# EAGLE library part 16MBITFLASH (library pixel)
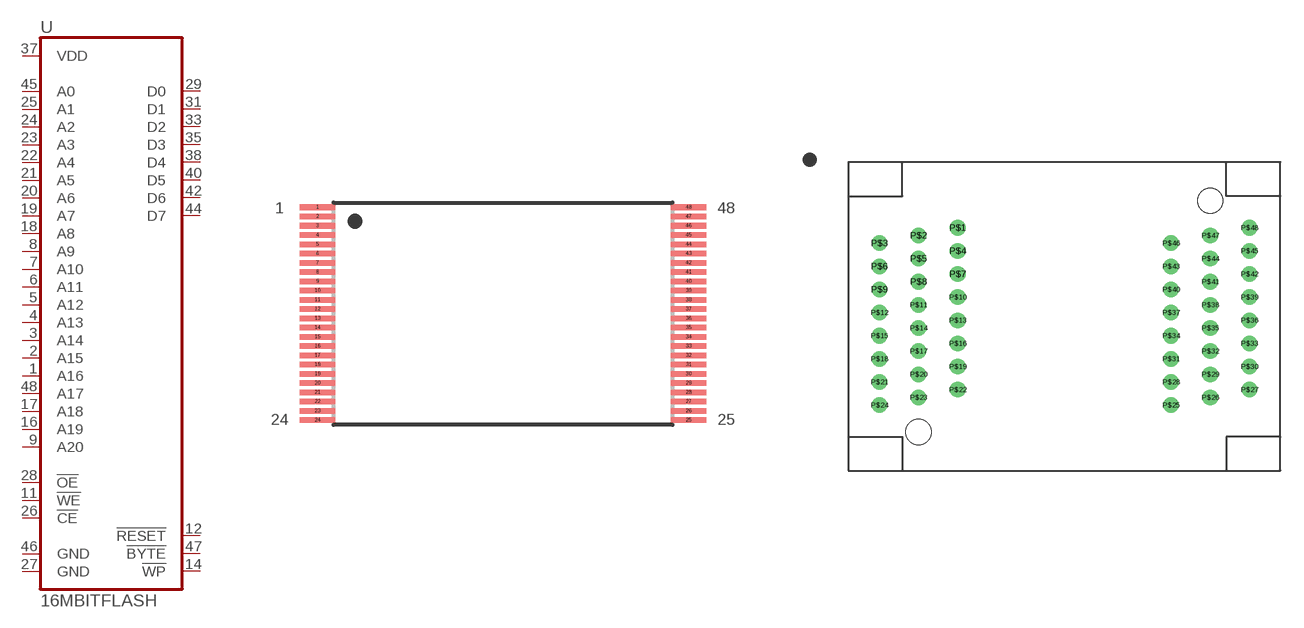
[diagram p2: symbol with the pads of TSOP48-LL; footprints TSOP48-LL, TSOP48-ADAPTER]

Designator prefix -

## 16MBITFLASHLONGLEAD  [TSOP48-LL]
1  A16  in
2  A15  in
3  A14  in
4  A13  in
5  A12  in
6  A11  in
7  A10  in
8  A9  in
9  A20
11  !WE  in
12  !RESET
14  !WP
16  A19
17  A18  in
18  A8  in
19  A7  in
20  A6  in
21  A5  in
22  A4  in
23  A3  in
24  A2  in
25  A1  in
26  !CE  in
27  GND  pwr
28  !OE  in
29  D0
31  D1
33  D2
35  D3
37  VDD  pwr
38  D4
40  D5
42  D6
44  D7
45  A0  in
46  GND  pwr
47  !BYTE
48  A17  in

## 16MBITFLASHSOCKET  [TSOP48-ADAPTER]
P$1  A16  in
P$2  A15  in
P$3  A14  in
P$4  A13  in
P$5  A12  in
P$6  A11  in
P$7  A10  in
P$8  A9  in
P$9  A20
P$11  !WE  in
P$12  !RESET
P$14  !WP
P$16  A19
P$17  A18  in
P$18  A8  in
P$19  A7  in
P$20  A6  in
P$21  A5  in
P$22  A4  in
P$23  A3  in
P$24  A2  in
P$25  A1  in
P$26  !CE  in
P$27  GND  pwr
P$28  !OE  in
P$29  D0
P$31  D1
P$33  D2
P$35  D3
P$37  VDD  pwr
P$38  D4
P$40  D5
P$42  D6
P$44  D7
P$45  A0  in
P$46  GND  pwr
P$47  !BYTE
P$48  A17  in

## 16MBITFLASH  [TSOP48]
1  A16  in
2  A15  in
3  A14  in
4  A13  in
5  A12  in
6  A11  in
7  A10  in
8  A9  in
9  A20
11  !WE  in
12  !RESET
14  !WP
16  A19
17  A18  in
18  A8  in
19  A7  in
20  A6  in
21  A5  in
22  A4  in
23  A3  in
24  A2  in
25  A1  in
26  !CE  in
27  GND  pwr
28  !OE  in
29  D0
31  D1
33  D2
35  D3
37  VDD  pwr
38  D4
40  D5
42  D6
44  D7
45  A0  in
46  GND  pwr
47  !BYTE
48  A17  in

## Footprint TSOP48-LL (pad centres in mm)
48-Lead Thin Small Outline Package (TSOP) 12mm x 20mm SST Package Code: EK Source: http://www.sst.com/dotAsset/40687.pdf
smd 1.9 x 0.3: 1 -10.025,5.75; 2 -10.025,5.25; 3 -10.025,4.75; 4 -10.025,4.25; 5 -10.025,3.75; 6 -10.025,3.25; 7 -10.025,2.75; 8 -10.025,2.25; 9 -10.025,1.75; 10 -10.025,1.25; 11 -10.025,0.75; 12 -10.025,0.25; 13 -10.025,-0.25; 14 -10.025,-0.75; 15 -10.025,-1.25; 16 -10.025,-1.75; 17 -10.025,-2.25; 18 -10.025,-2.75; 19 -10.025,-3.25; 20 -10.025,-3.75; 21 -10.025,-4.25; 22 -10.025,-4.75; 23 -10.025,-5.25; 24 -10.025,-5.75; 25 10.025,-5.75; 26 10.025,-5.25; 27 10.025,-4.75; 28 10.025,-4.25; 29 10.025,-3.75; 30 10.025,-3.25; 31 10.025,-2.75; 32 10.025,-2.25; 33 10.025,-1.75; 34 10.025,-1.25; 35 10.025,-0.75; 36 10.025,-0.25; 37 10.025,0.25; 38 10.025,0.75; 39 10.025,1.25; 40 10.025,1.75; 41 10.025,2.25; 42 10.025,2.75; 43 10.025,3.25; 44 10.025,3.75; 45 10.025,4.25; 46 10.025,4.75; 47 10.025,5.25; 48 10.025,5.75

## Footprint TSOP48-ADAPTER (pad centres in mm)
drill 0.5 pad 0.754: P$1 -6.915,5.75; P$2 -9.455,5.25; P$3 -11.995,4.75; P$4 -6.915,4.25; P$5 -9.455,3.75; P$6 -11.995,3.25; P$7 -6.915,2.75; P$8 -9.455,2.25; P$9 -11.995,1.75; P$10 -6.915,1.25; P$11 -9.455,0.75; P$12 -11.995,0.25; P$13 -6.915,-0.25; P$14 -9.455,-0.75; P$15 -11.995,-1.25; P$16 -6.915,-1.75; P$17 -9.455,-2.25; P$18 -11.995,-2.75; P$19 -6.915,-3.25; P$20 -9.455,-3.75; P$21 -11.995,-4.25; P$22 -6.915,-4.75; P$23 -9.455,-5.25; P$24 -11.995,-5.75; P$25 6.915,-5.75; P$26 9.455,-5.25; P$27 11.995,-4.75; P$28 6.915,-4.25; P$29 9.455,-3.75; P$30 11.995,-3.25; P$31 6.915,-2.75; P$32 9.455,-2.25; P$33 11.995,-1.75; P$34 6.915,-1.25; P$35 9.455,-0.75; P$36 11.995,-0.25; P$37 6.915,0.25; P$38 9.455,0.75; P$39 11.995,1.25; P$40 6.915,1.75; P$41 9.455,2.25; P$42 11.995,2.75; P$43 6.915,3.25; P$44 9.455,3.75; P$45 11.995,4.25; P$46 6.915,4.75; P$47 9.455,5.25; P$48 11.995,5.75
hole 1.65 at 9.455,7.5
hole 1.65 at -9.455,-7.5

## Footprint TSOP48 (pad centres in mm)
48-Pin TSOP OCPL Type 1 (WC Package Code) Source: http://download.micron.com/pdf/datasheets/flash/nand/4gb_nand_m40a.pdf
smd 0.9 x 0.3: 1 -9.75,5.75; 2 -9.75,5.25; 3 -9.75,4.75; 4 -9.75,4.25; 5 -9.75,3.75; 6 -9.75,3.25; 7 -9.75,2.75; 8 -9.75,2.25; 9 -9.75,1.75; 10 -9.75,1.25; 11 -9.75,0.75; 12 -9.75,0.25; 13 -9.75,-0.25; 14 -9.75,-0.75; 15 -9.75,-1.25; 16 -9.75,-1.75; 17 -9.75,-2.25; 18 -9.75,-2.75; 19 -9.75,-3.25; 20 -9.75,-3.75; 21 -9.75,-4.25; 22 -9.75,-4.75; 23 -9.75,-5.25; 24 -9.75,-5.75; 25 9.75,-5.75; 26 9.75,-5.25; 27 9.75,-4.75; 28 9.75,-4.25; 29 9.75,-3.75; 30 9.75,-3.25; 31 9.75,-2.75; 32 9.75,-2.25; 33 9.75,-1.75; 34 9.75,-1.25; 35 9.75,-0.75; 36 9.75,-0.25; 37 9.75,0.25; 38 9.75,0.75; 39 9.75,1.25; 40 9.75,1.75; 41 9.75,2.25; 42 9.75,2.75; 43 9.75,3.25; 44 9.75,3.75; 45 9.75,4.25; 46 9.75,4.75; 47 9.75,5.25; 48 9.75,5.75